# EAGLE library part USB-MINI (library CONN, usb conn)
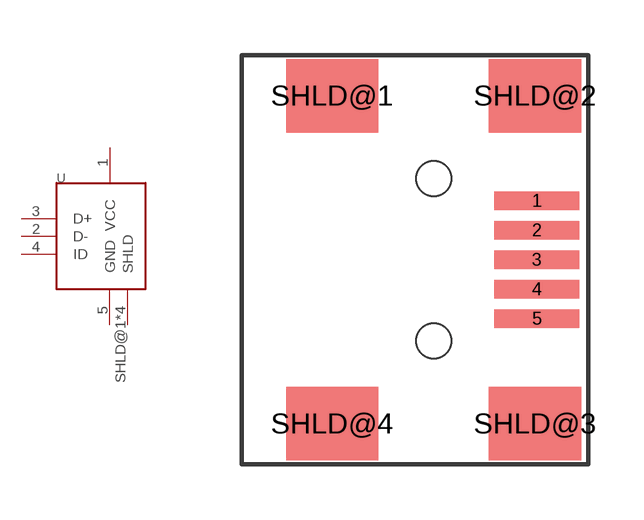
[diagram p0: symbol with the pads of MINI-USB; footprint MINI-USB]

Designator prefix -

## USB-MINI  [MINI-USB]
1  VCC
2  D-
3  D+
4  ID
5  GND
SHLD@1  SHLD
SHLD@2  SHLD
SHLD@3  SHLD
SHLD@4  SHLD

## Footprint MINI-USB (pad centres in mm)
smd 2.3 x 0.5: 1 2.8,1.6; 2 2.8,0.8; 3 2.8,0; 4 2.8,-0.8; 5 2.8,-1.6
smd 2.5 x 2: SHLD@1 -2.75,4.45; SHLD@2 2.75,4.45; SHLD@3 2.75,-4.45; SHLD@4 -2.75,-4.45
hole 0.95 at 0,2.2
hole 0.95 at 0,-2.2